# EAGLE library part LORA (library my_devices)
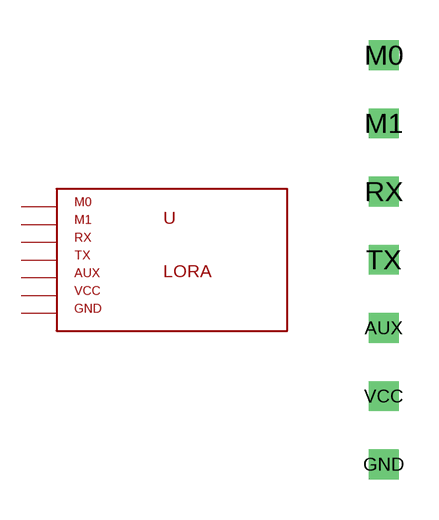
[diagram p14: symbol with the pads of LORA; footprint LORA]

Designator prefix U

## LORA  [LORA]
AUX  AUX
GND  GND  sup
M0  M0
M1  M1
RX  RX
TX  TX
VCC  VCC  sup

## Footprint LORA (pad centres in mm)
drill 0.6 square: AUX 0,-2.54; GND 0,-7.62; M0 0,7.62; M1 0,5.08; RX 0,2.54; TX 0,0; VCC 0,-5.08